# EAGLE library part PXC-8-V-1778612 (library Phoenix Contact PTSM 8 pin)
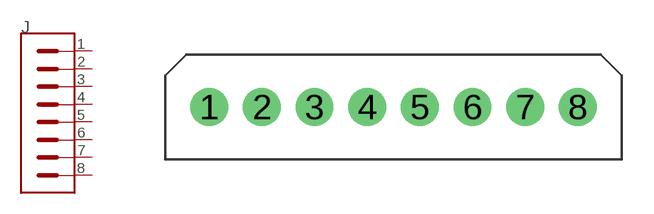
[diagram p0: symbol with the pads of PXC-8-V-1778612; footprint PXC-8-V-1778612]

Designator prefix J

## PXC-8-V-1778612  [PXC-8-V-1778612]
1  1  pas
2  2  pas
3  3  pas
4  4  pas
5  5  pas
6  6  pas
7  7  pas
8  8  pas

## Footprint PXC-8-V-1778612 (pad centres in mm)
drill 1.1 pad 1.8: 1 0,0; 2 2.5,0; 3 5,0; 4 7.5,0; 5 10,0; 6 12.5,0; 7 15,0; 8 17.5,0